# EAGLE library part IF_GPIO_EXP_PCA9536D (library !GPLIB_ACTIVE)
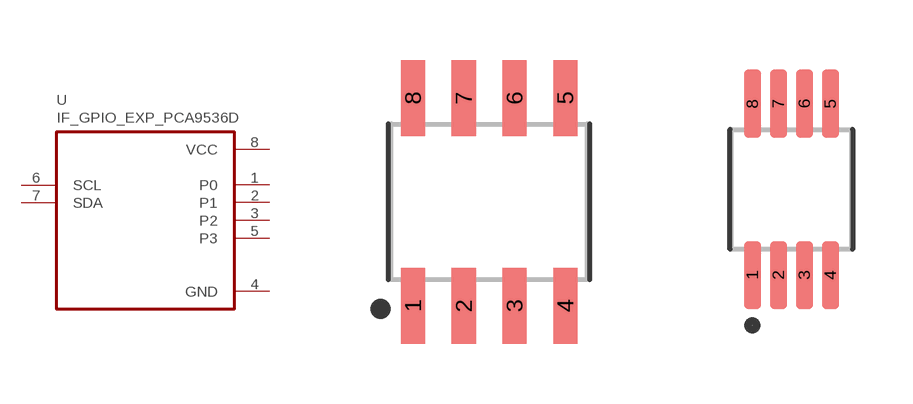
[diagram p125: symbol with the pads of SOIC-8P; footprints SOIC-8P, SOP65P490X110-8N]

Designator prefix U

## IF_GPIO_EXP_PCA9536D_PCA9536D-118  [SOIC-8P]
1  P0  out
2  P1  out
3  P2  out
4  GND  pwr
5  P3  out
6  SCL  in
7  SDA  in
8  VCC  pwr

## IF_GPIO_EXP_PCA9536D_PCA9536DGKR  [SOP65P490X110-8N]
Pads as for SOIC-8P

## Footprint SOIC-8P (pad centres in mm)
8-SOIC, 1.27 mm pitch, 6.00 mm span, 4.90 X 3.90 X 1.75 mm body 8-pin SOIC package with 1.27 mm pitch, 6.00 mm span with body size 4.90 X 3.90 X 1.75 mm
smd 0.602 x 1.904: 1 -1.905,-2.6; 2 -0.635,-2.6; 3 0.635,-2.6; 4 1.905,-2.6; 5 1.905,2.6; 6 0.635,2.6; 7 -0.635,2.6; 8 -1.905,2.6

## Footprint SOP65P490X110-8N (pad centres in mm)
MSOP 8P MSOP-8_L3.0-W3.0-P0.65-LS5.0-BL
smd 0.425 x 1.7: 1 -0.975,-2.146; 2 -0.325,-2.146; 3 0.325,-2.146; 4 0.975,-2.146; 5 0.975,2.146; 6 0.325,2.146; 7 -0.325,2.146; 8 -0.975,2.146